# EAGLE library part 2NMOS (library dubec)
Dual N-channel MOSFET
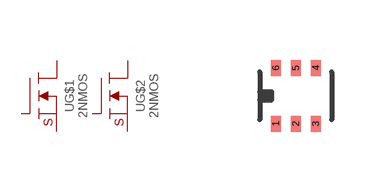
[diagram p11: symbol with the pads of SOT-666; footprint SOT-666]

Designator prefix -; gates G$1=N-MOSFET G$2=N-MOSFET

## 2NMOS60V_0.2A (DIGIKEY_PART_#: SSM6N7002BFELMCT-ND; EURO: 3.16/10; MANUFACTURER: Toshiba Semiconductor and Storage; MFG_PART_#: SSM6N7002BFE,LM)  [SOT-666]
1  G$1:S  pas
2  G$1:G  pas
3  G$2:D  pas
4  G$2:S  pas
5  G$2:G  pas
6  G$1:D  pas

## 2NMOS30V_0.1A (DIGIKEY_PART_#: FC6943010RCT-ND; EPK: 52.80; MANUFACTURER: Panasonic Electronic Components; MFG_PART_#: FC6943010R; POWER: 0.125W; RDS: 8 Ohm @ 10mA, 4V; VGS: 1.5V @ 1µA)  [SOT-666]
Pads as for SOT-666

## Footprint SOT-666 (pad centres in mm)
smd 0.25 x 0.4: 1 -0.5,-0.7; 2 0,-0.7; 3 0.5,-0.7; 4 0.5,0.7; 5 0,0.7; 6 -0.5,0.7